# Altium footprint library Resistor.PcbLib: 20 footprints (part 2 of 2)
Each footprint in its own frame and in the unit in brackets; x right, y up, seen from the top. Pads: shape width x height; smd on the part's side, far side on the other; paste and mask are expansions set on the pad; w line width, h text height; cw(c..) or ccw(c..) is an arc to the next point about the centre after c.
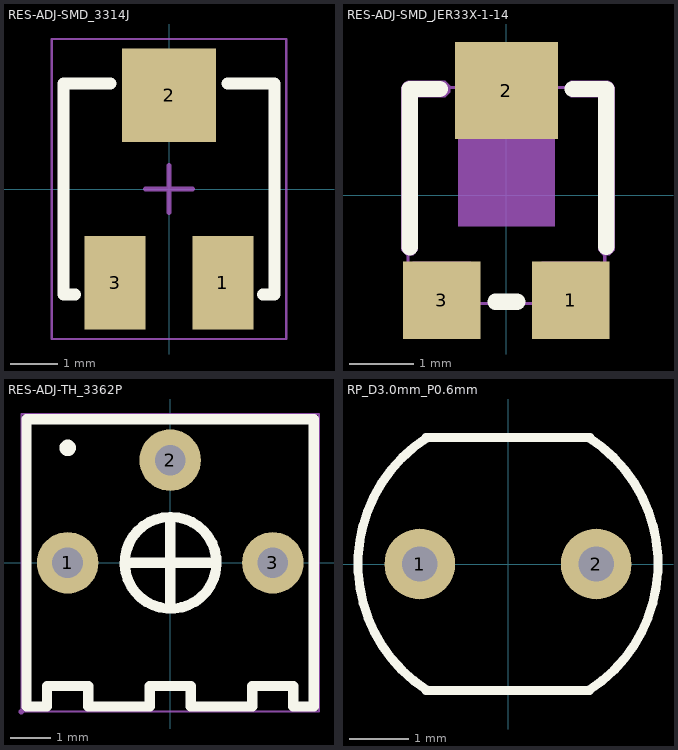
[diagram p1: the footprints below, top view; thin cyan lines are the x and y axes]

## RES-ADJ-SMD_3314J [mm]
pads (3):
  rect 1.3x2 smd: 1(1.15,-2) 3(-1.15,-2)
  rect 2x2 smd: 2(0,2)
Top Overlay:
  lines w0.254: -2,-2.25 -2.25,-2.25 -2.25,2.25 -1.25,2.25 ; 1.25,2.25 2.25,2.25 2.25,-2.25 2,-2.25
Mechanical 15:
  lines w0.05: -2.5,-3.2 2.5,-3.2 2.5,3.2 -2.5,3.2 -2.5,-3.2
  lines w0.1: -0.5,0 0.5,0 ; 0,-0.5 0,0.5
3D body "3314j-2-503e.stp": height 2.77, standoff 0.04, extent -2.5,-2.504 2.5,2.5

## RES-ADJ-SMD_JER33X-1-14 [mm]
pads (3):
  rect 1.2x1.2 smd paste+0 mask+0.05: 1(1,-1.625) 3(-1,-1.625)
  rect 1.6x1.5 smd paste+0 mask+0.05: 2(0,1.625)
Top Overlay:
  lines w0.254: -1.5,-0.8 -1.5,1.65 -1.031,1.65 ; -0.169,-1.65 0.169,-1.65 ; 1.031,1.65 1.55,1.65 1.55,-0.794
Mechanical 2:
  region: 1.05,1.777 1.55,1.777 1.575,1.777 1.622,1.758 1.658,1.722 1.677,1.675 1.677,1.65 1.677,-0.8 1.677,-0.853 1.603,-0.927 1.497,-0.927 1.423,-0.853 1.423,-0.8 1.423,1.523 1.05,1.523 0.997,1.523 0.923,1.597 0.923,1.703 0.997,1.777 1.05,1.777
  region: -1,1.523 -1.373,1.523 -1.373,-0.8 -1.373,-0.853 -1.447,-0.927 -1.553,-0.927 -1.627,-0.853 -1.627,-0.8 -1.627,1.65 -1.627,1.675 -1.608,1.722 -1.572,1.758 -1.525,1.777 -1.5,1.777 -1,1.777 -0.947,1.777 -0.873,1.703 -0.873,1.597 -0.947,1.523 -1,1.523
Mechanical 6:
  lines w0.051: -1.525,-1.675 1.525,-1.675 1.525,1.675 -1.525,1.675 -1.525,-1.675
Mechanical 8:
  region: 1.585,-1.825 1.585,-1.85 1.55,-1.885 1.5,-1.885 1.465,-1.85 1.465,-1.825 1.465,-1.8 1.5,-1.765 1.55,-1.765 1.585,-1.8 1.585,-1.825
Mechanical 9:
  region: -0.55,-1.825 -1.45,-1.825 -1.45,-1.025 -0.55,-1.025
  region: 1.45,-1.825 0.55,-1.825 0.55,-1.025 1.45,-1.025
  region: 0.75,-0.475 -0.75,-0.475 -0.75,2.025 0.75,2.025
3D body "1.step": height 1.3, standoff 0, extent -1.53,-1.905 1.53,1.905

## RES-ADJ-TH_3362P [mil]
pads (3):
  round 60 hole 30 paste+2: 1(-100,0) 2(0,100) 3(100,0)
Top Overlay:
  lines w10: -100,115 ccw(c-99.95,112) -99.9,115 ; -40,0 40,0 ; 0,-40 0,40 ; 0,44.7 ccw(c0.4,-0.02) 0.8,44.7 ; 140,20 140,140 -140,140 -140,20 -140,-120 -140,-140 -120,-140 -120,-120 -80,-120 -80,-140 -20,-140 -20,-120 20,-120 20,-140 80,-140 80,-120 120,-120 120,-140 140,-140 140,-120 140,40
Mechanical 6:
  lines w2: -145,-145 -145,145 145,145 145,-145 -145,-145
Mechanical 8:
  region: -142.64,-145 -142.64,-145.98 -144.02,-147.36 -145.98,-147.36 -147.36,-145.98 -147.36,-145 -147.36,-144.02 -145.98,-142.64 -144.02,-142.64 -142.64,-144.02 -142.64,-145
Mechanical 9:
  region: -88.94,0 -88.94,-2.2 -90.62,-6.27 -93.73,-9.38 -97.8,-11.06 -102.2,-11.06 -106.27,-9.38 -109.38,-6.27 -111.06,-2.2 -111.06,0 -111.06,2.2 -109.38,6.27 -106.27,9.38 -102.2,11.06 -97.8,11.06 -93.73,9.38 -90.62,6.27 -88.94,2.2 -88.94,0
  region: 11.06,100 11.06,97.8 9.38,93.73 6.27,90.62 2.2,88.94 -2.2,88.94 -6.27,90.62 -9.38,93.73 -11.06,97.8 -11.06,100 -11.06,102.2 -9.38,106.27 -6.27,109.38 -2.2,111.06 2.2,111.06 6.27,109.38 9.38,106.27 11.06,102.2 11.06,100
  region: 111.06,0 111.06,-2.2 109.38,-6.27 106.27,-9.38 102.2,-11.06 97.8,-11.06 93.73,-9.38 90.62,-6.27 88.94,-2.2 88.94,0 88.94,2.2 90.62,6.27 93.73,9.38 97.8,11.06 102.2,11.06 106.27,9.38 109.38,6.27 111.06,2.2 111.06,0
3D body "00000000.step": height 188.19, standoff -137.8, extent -135.83,-136.81 135.83,142.76

## RP_D3.0mm_P0.6mm [mm]
pads (2):
  round 1.2 hole 0.6: 1(-1.5,0) 2(1.5,0)
Top Overlay:
  lines w0.152: -1.391,-2.15 1.385,-2.15 ; -1.391,2.137 ccw(c0,0) -1.385,-2.141 ; -1.391,2.15 1.391,2.15 ; 1.385,-2.141 ccw(c0,0) 1.391,2.137